# EAGLE library part 5461AS (library library)
7Segment - 4Digits DataSheet <http://www.topliteusa.com/uploadfile/2014/0825/A-5461AS.pdf>
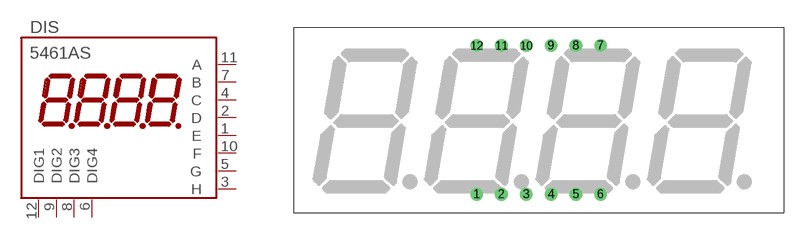
[diagram p4: symbol with the pads of 8SEG_4DIGITS; footprint 8SEG_4DIGITS]

Designator prefix DIS

## 5461AS (OC_FARNELL: unknown; OC_NEWARK: unknown)  [8SEG_4DIGITS]
1  E  in
2  D  in
3  H  in
4  C  in
5  G  in
6  DIG4  in
7  B  in
8  DIG3  in
9  DIG2  in
10  F  in
11  A  in
12  DIG1  in

## Footprint 8SEG_4DIGITS (pad centres in mm)
LED DISPLAY 15-mm 1 character 7 segment, decimal point right
drill 0.8: 1 -6.35,-7.62; 2 -3.81,-7.62; 3 -1.27,-7.62; 4 1.27,-7.62; 5 3.81,-7.62; 6 6.35,-7.62; 7 6.35,7.62; 8 3.81,7.62; 9 1.27,7.62; 10 -1.27,7.62; 11 -3.81,7.62; 12 -6.35,7.62